# Altium integrated library TI Power Management Battery Management.IntLib: 949 symbols (part 22 of 62)
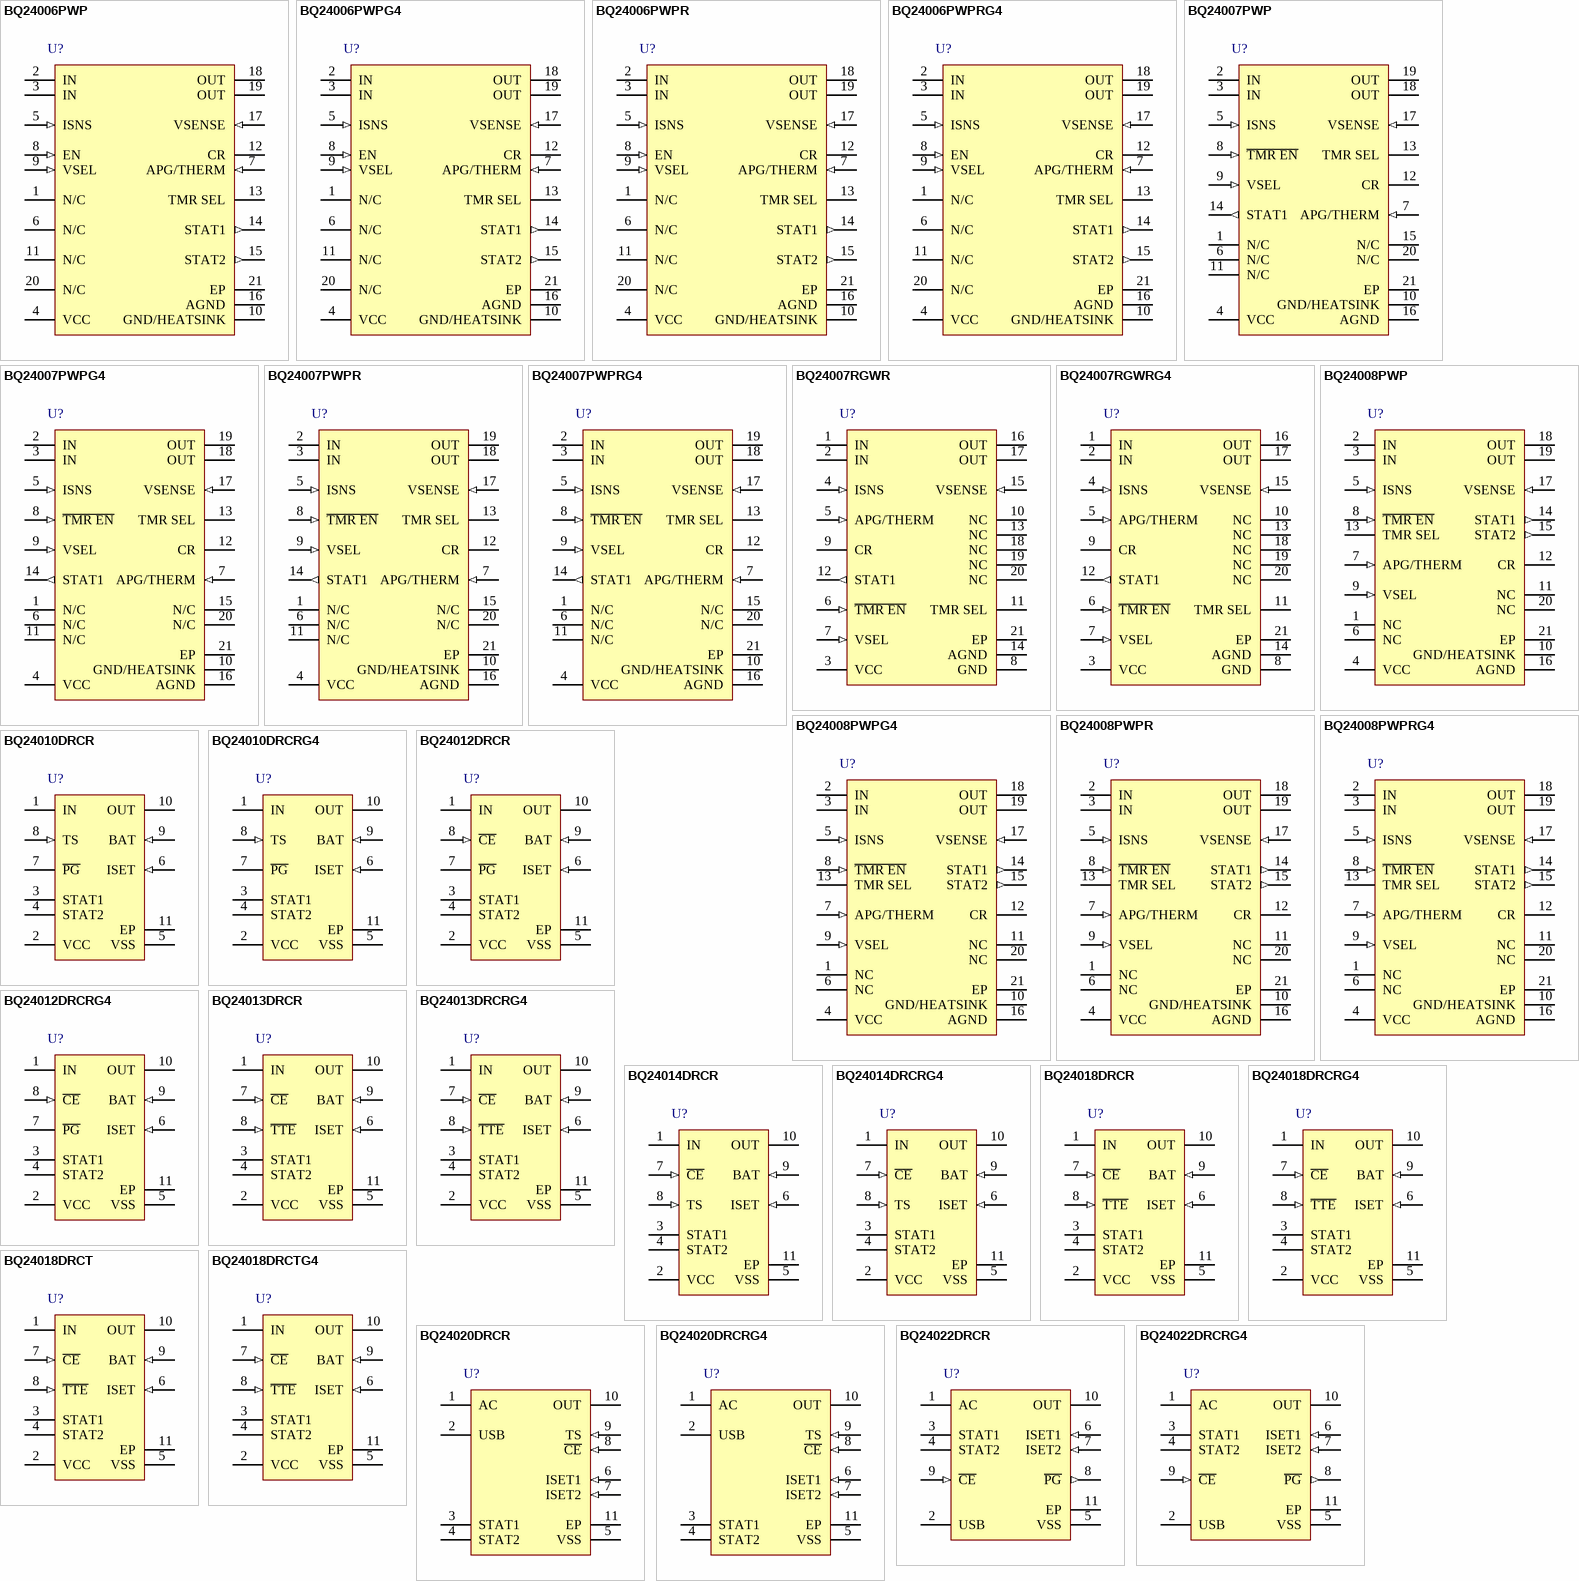
[diagram p55: symbols BQ24006PWP to BQ24022DRCRG4]

## BQ24018DRCRG4
designator U?
Single Chip Li-Ion Charge Management IC for Handheld Applications (bqTINY), 3 V, -40 to 125 degC, 10-pin SON (DRC), Green (RoHS & no Sb/Br); PartNumber: BQ24018DRCRG4; Manufacturer: Texas Instruments; Lead Acid: N; Li-Ion: Y; SubFamily: Battery Charge Management; Vin(Min)(V): 3; DatasheetVersion: SLUS530J; PackageVersion: revL, Sep-2011; PackageReference: DRC10-2400X1650TP; PackageDescription: 10-Pin Plastic Small Outline No-Lead, 3 x 3 x 1 mm Body, 0.5 mm Pitch, Exposed Pad; Supplier 1: Digi-Key; Supplier Part Number 1: BQ24018DRCRG4-ND; Supplier 2: Newark; Supplier Part Number 2: 52M8213; Supplier 3: Mouser; Supplier Part Number 3: 595-BQ24018DRCRG4; Eco-Plan: Green (RoHS & no Sb/Br); Li-Polymer: Y; NiCd: N; NiMH: N; Over Voltage Protection: N; Mounting Technology: Surface Mount; ComponentLink1Description: Datasheet; ComponentLink1URL: http://www.ti.com/general/docs/lit/getliterature.tsp?genericPartNumber=BQ24018&fileType=pdf
footprint DRC10-2400X1650TP (SON, 10-Leads, Body 3x3mm, Pitch 0.5mm, Thermal Pad 2.4x1.65mm, TI Recommended)
pins: 1 IN (power) "Charge input voltage. This input must be tied to the VCC pin.", 2 VCC (power) "VCC supply input", 3 STAT1 (oc) "Charge status output 1 (open collector)", 4 STAT2 (oc) "Charge status output 2 (open collector)", 5 VSS (power) "Ground input", 6 ISET (in) "Charge current set point", 7 ~{CE} (in) "Charge enable input (active low)", 8 ~{TTE} (in) "Timer and termination enable input (active low)", 9 BAT (in) "Battery voltage sense input", 10 OUT (power) "Charge current output", 11 EP (power) "There is an internal electrical connection between the exposed thermal pad and VSS pin of the device. The exposed thermal pad must be connected to the same potential as the Vss pin on the printed circuit board. Do not use (See Datasheet)"

## BQ24018DRCT
designator U?
Single Chip Li-Ion Charge Management IC for Handheld Applications (bqTINY), 3 V, -40 to 125 degC, 10-pin SON (DRC), Green (RoHS & no Sb/Br); PartNumber: BQ24018DRCT; Manufacturer: Texas Instruments; Lead Acid: N; Li-Ion: Y; SubFamily: Battery Charge Management; Vin(Min)(V): 3; DatasheetVersion: SLUS530J; PackageVersion: revL, Sep-2011; PackageReference: DRC10-2400X1650TP; PackageDescription: 10-Pin Plastic Small Outline No-Lead, 3 x 3 x 1 mm Body, 0.5 mm Pitch, Exposed Pad; Supplier 1: Digi-Key; Supplier Part Number 1: BQ24018DRCT-ND; Supplier 2: Farnell; Supplier Part Number 2: 1647892; Supplier 3: Newark; Supplier Part Number 3: 33P6574; Supplier 4: Newark; Supplier Part Number 4: 50M9889; Supplier 5: Mouser; Supplier Part Number 5: 595-BQ24018DRCT; Eco-Plan: Green (RoHS & no Sb/Br); Li-Polymer: Y; NiCd: N; NiMH: N; Over Voltage Protection: N; Mounting Technology: Surface Mount; ComponentLink1Description: Datasheet; ComponentLink1URL: http://www.ti.com/general/docs/lit/getliterature.tsp?genericPartNumber=BQ24018&fileType=pdf
footprint DRC10-2400X1650TP (SON, 10-Leads, Body 3x3mm, Pitch 0.5mm, Thermal Pad 2.4x1.65mm, TI Recommended)
pins: 1 IN (power) "Charge input voltage. This input must be tied to the VCC pin.", 2 VCC (power) "VCC supply input", 3 STAT1 (oc) "Charge status output 1 (open collector)", 4 STAT2 (oc) "Charge status output 2 (open collector)", 5 VSS (power) "Ground input", 6 ISET (in) "Charge current set point", 7 ~{CE} (in) "Charge enable input (active low)", 8 ~{TTE} (in) "Timer and termination enable input (active low)", 9 BAT (in) "Battery voltage sense input", 10 OUT (power) "Charge current output", 11 EP (power) "There is an internal electrical connection between the exposed thermal pad and VSS pin of the device. The exposed thermal pad must be connected to the same potential as the Vss pin on the printed circuit board. Do not use (See Datasheet)"

## BQ24018DRCTG4
designator U?
Single Chip Li-Ion Charge Management IC for Handheld Applications (bqTINY), 3 V, -40 to 125 degC, 10-pin SON (DRC), Green (RoHS & no Sb/Br); PartNumber: BQ24018DRCTG4; Manufacturer: Texas Instruments; Lead Acid: N; Li-Ion: Y; SubFamily: Battery Charge Management; Vin(Min)(V): 3; DatasheetVersion: SLUS530J; PackageVersion: revL, Sep-2011; PackageReference: DRC10-2400X1650TP; PackageDescription: 10-Pin Plastic Small Outline No-Lead, 3 x 3 x 1 mm Body, 0.5 mm Pitch, Exposed Pad; Supplier 1: Digi-Key; Supplier Part Number 1: BQ24018DRCTG4-ND; Supplier 2: Newark; Supplier Part Number 2: 52M8214; Supplier 3: Mouser; Supplier Part Number 3: 595-BQ24018DRCTG4; Eco-Plan: Green (RoHS & no Sb/Br); Li-Polymer: Y; NiCd: N; NiMH: N; Over Voltage Protection: N; Mounting Technology: Surface Mount; ComponentLink1Description: Datasheet; ComponentLink1URL: http://www.ti.com/general/docs/lit/getliterature.tsp?genericPartNumber=BQ24018&fileType=pdf
footprint DRC10-2400X1650TP (SON, 10-Leads, Body 3x3mm, Pitch 0.5mm, Thermal Pad 2.4x1.65mm, TI Recommended)
pins: 1 IN (power) "Charge input voltage. This input must be tied to the VCC pin.", 2 VCC (power) "VCC supply input", 3 STAT1 (oc) "Charge status output 1 (open collector)", 4 STAT2 (oc) "Charge status output 2 (open collector)", 5 VSS (power) "Ground input", 6 ISET (in) "Charge current set point", 7 ~{CE} (in) "Charge enable input (active low)", 8 ~{TTE} (in) "Timer and termination enable input (active low)", 9 BAT (in) "Battery voltage sense input", 10 OUT (power) "Charge current output", 11 EP (power) "There is an internal electrical connection between the exposed thermal pad and VSS pin of the device. The exposed thermal pad must be connected to the same potential as the Vss pin on the printed circuit board. Do not use (See Datasheet)"

## BQ24020DRCR
designator U?
bqTINY-II Dual Input USB / AC Adpater 1-Cell Li-Ion Charger with Charge Enable & Temp Sense in QFN-10, 4.5 V, -40 to 125 degC, 10-pin SON (DRC), Green (RoHS & no Sb/Br); PartNumber: BQ24020DRCR; Manufacturer: Texas Instruments; Lead Acid: N; Li-Ion: Y; SubFamily: Battery Charge Management; Vin(Min)(V): 4.5; DatasheetVersion: SLUS549E; PackageVersion: revL, Sep-2011; PackageReference: DRC10-2400X1650TP; PackageDescription: 10-Pin Plastic Small Outline No-Lead, 3 x 3 x 1 mm Body, 0.5 mm Pitch, Exposed Pad; Supplier 1: Digi-Key; Supplier Part Number 1: 296-14072-2-ND; Supplier 2: Digi-Key; Supplier Part Number 2: 296-14072-1-ND; Supplier 3: Digi-Key; Supplier Part Number 3: 296-14072-6-ND; Supplier 4: Newark; Supplier Part Number 4: 20H2737; Supplier 5: Mouser; Supplier Part Number 5: 595-BQ24020DRCR; Eco-Plan: Green (RoHS & no Sb/Br); Li-Polymer: Y; NiCd: N; NiMH: N; Over Voltage Protection: N; Mounting Technology: Surface Mount; ComponentLink1Description: Datasheet; ComponentLink1URL: http://www.ti.com/general/docs/lit/getliterature.tsp?genericPartNumber=BQ24020&fileType=pdf
footprint DRC10-2400X1650TP (SON, 10-Leads, Body 3x3mm, Pitch 0.5mm, Thermal Pad 2.4x1.65mm, TI Recommended)
pins: 1 AC (power) "AC charge input voltage", 2 USB (power) "USB charge input voltage", 3 STAT1 (oc) "Charge status output 1 (open-drain)", 4 STAT2 (oc) "Charge status output 2 (open-drain)", 5 VSS (power) "Ground input", 6 ISET1 (in) "Charge current set point for AC input and precharge ande taper set point for both AC and USB", 7 ISET2 (in) "Charge current set point for USB port (high=500 mA, low=100 mA, hi-z = disable USB charge)", 8 ~{CE} (in) "Charge enable input (active low)", 9 TS (in) "Temperature sense input", 10 OUT (power) "Charge current output", 11 EP (power) "There is an internal electrical connection between the exposed thermal pad and VSS pin of the device. The exposed thermal pad must be connected to the same potential as the VSS pin on the printed circuit board. Do not use (See Datasheet)"

## BQ24020DRCRG4
designator U?
bqTINY-II Dual Input USB / AC Adpater 1-Cell Li-Ion Charger with Charge Enable & Temp Sense in QFN-10, 4.5 V, -40 to 125 degC, 10-pin SON (DRC), Green (RoHS & no Sb/Br); PartNumber: BQ24020DRCRG4; Manufacturer: Texas Instruments; Lead Acid: N; Li-Ion: Y; SubFamily: Battery Charge Management; Vin(Min)(V): 4.5; DatasheetVersion: SLUS549E; PackageVersion: revL, Sep-2011; PackageReference: DRC10-2400X1650TP; PackageDescription: 10-Pin Plastic Small Outline No-Lead, 3 x 3 x 1 mm Body, 0.5 mm Pitch, Exposed Pad; Supplier 1: Digi-Key; Supplier Part Number 1: BQ24020DRCRG4-ND; Supplier 2: Newark; Supplier Part Number 2: 24K4385; Supplier 3: Mouser; Supplier Part Number 3: 595-BQ24020DRCRG4; Eco-Plan: Green (RoHS & no Sb/Br); Li-Polymer: Y; NiCd: N; NiMH: N; Over Voltage Protection: N; Mounting Technology: Surface Mount; ComponentLink1Description: Datasheet; ComponentLink1URL: http://www.ti.com/general/docs/lit/getliterature.tsp?genericPartNumber=BQ24020&fileType=pdf
footprint DRC10-2400X1650TP (SON, 10-Leads, Body 3x3mm, Pitch 0.5mm, Thermal Pad 2.4x1.65mm, TI Recommended)
pins: 1 AC (power) "AC charge input voltage", 2 USB (power) "USB charge input voltage", 3 STAT1 (oc) "Charge status output 1 (open-drain)", 4 STAT2 (oc) "Charge status output 2 (open-drain)", 5 VSS (power) "Ground input", 6 ISET1 (in) "Charge current set point for AC input and precharge ande taper set point for both AC and USB", 7 ISET2 (in) "Charge current set point for USB port (high=500 mA, low=100 mA, hi-z = disable USB charge)", 8 ~{CE} (in) "Charge enable input (active low)", 9 TS (in) "Temperature sense input", 10 OUT (power) "Charge current output", 11 EP (power) "There is an internal electrical connection between the exposed thermal pad and VSS pin of the device. The exposed thermal pad must be connected to the same potential as the VSS pin on the printed circuit board. Do not use (See Datasheet)"

## BQ24022DRCR
designator U?
bqTINY-II Dual Input USB / AC Adpater 1-Cell Li-Ion Charger with Charge Enable & Power Good in QFN-10, 4.5 V, -40 to 125 degC, 10-pin SON (DRC), Green (RoHS & no Sb/Br); PartNumber: BQ24022DRCR; Manufacturer: Texas Instruments; Lead Acid: N; Li-Ion: Y; SubFamily: Battery Charge Management; Vin(Min)(V): 4.5; DatasheetVersion: SLUS549E; PackageVersion: revL, Sep-2011; PackageReference: DRC10-2400X1650TP; PackageDescription: 10-Pin Plastic Small Outline No-Lead, 3 x 3 x 1 mm Body, 0.5 mm Pitch, Exposed Pad; Supplier 1: Digi-Key; Supplier Part Number 1: 296-14397-2-ND; Supplier 2: Digi-Key; Supplier Part Number 2: 296-14397-1-ND; Supplier 3: Digi-Key; Supplier Part Number 3: 296-14397-6-ND; Supplier 4: Newark; Supplier Part Number 4: 32H5414; Supplier 5: Mouser; Supplier Part Number 5: 595-BQ24022DRCR; Eco-Plan: Green (RoHS & no Sb/Br); Li-Polymer: Y; NiCd: N; NiMH: N; Over Voltage Protection: N; Mounting Technology: Surface Mount; ComponentLink1Description: Datasheet; ComponentLink1URL: http://www.ti.com/general/docs/lit/getliterature.tsp?genericPartNumber=BQ24022&fileType=pdf
footprint DRC10-2400X1650TP (SON, 10-Leads, Body 3x3mm, Pitch 0.5mm, Thermal Pad 2.4x1.65mm, TI Recommended)
pins: 1 AC (power) "AC charge input voltage", 2 USB (power) "USB charge input voltage", 3 STAT1 (oc) "Charge status output 1 (open-drain)", 4 STAT2 (oc) "Charge status output 2 (open-drain)", 5 VSS (power) "Ground input", 6 ISET1 (in) "Charge current set point for AC input and precharge ande taper set point for both AC and USB", 7 ISET2 (in) "Charge current set point for USB port (high=500 mA, low=100 mA, hi-z = disable USB charge)", 8 ~{PG} (out) "powergood status output (active low)", 9 ~{CE} (in) "Charge enable input (active low)", 10 OUT (power) "Charge current output", 11 EP (power) "There is an internal electrical connection between the exposed thermal pad and VSS pin of the device. The exposed thermal pad must be connected to the same potential as the VSS pin on the printed circuit board. Do not use (See Datasheet)"

## BQ24022DRCRG4
designator U?
bqTINY-II Dual Input USB / AC Adpater 1-Cell Li-Ion Charger with Charge Enable & Power Good in QFN-10, 4.5 V, -40 to 125 degC, 10-pin SON (DRC), Green (RoHS & no Sb/Br); PartNumber: BQ24022DRCRG4; Manufacturer: Texas Instruments; Lead Acid: N; Li-Ion: Y; SubFamily: Battery Charge Management; Vin(Min)(V): 4.5; DatasheetVersion: SLUS549E; PackageVersion: revL, Sep-2011; PackageReference: DRC10-2400X1650TP; PackageDescription: 10-Pin Plastic Small Outline No-Lead, 3 x 3 x 1 mm Body, 0.5 mm Pitch, Exposed Pad; Supplier 1: Digi-Key; Supplier Part Number 1: BQ24022DRCRG4-ND; Supplier 2: Newark; Supplier Part Number 2: 03K8981; Supplier 3: Mouser; Supplier Part Number 3: 595-BQ24022DRCRG4; Eco-Plan: Green (RoHS & no Sb/Br); Li-Polymer: Y; NiCd: N; NiMH: N; Over Voltage Protection: N; Mounting Technology: Surface Mount; ComponentLink1Description: Datasheet; ComponentLink1URL: http://www.ti.com/general/docs/lit/getliterature.tsp?genericPartNumber=BQ24022&fileType=pdf
footprint DRC10-2400X1650TP (SON, 10-Leads, Body 3x3mm, Pitch 0.5mm, Thermal Pad 2.4x1.65mm, TI Recommended)
pins: 1 AC (power) "AC charge input voltage", 2 USB (power) "USB charge input voltage", 3 STAT1 (oc) "Charge status output 1 (open-drain)", 4 STAT2 (oc) "Charge status output 2 (open-drain)", 5 VSS (power) "Ground input", 6 ISET1 (in) "Charge current set point for AC input and precharge ande taper set point for both AC and USB", 7 ISET2 (in) "Charge current set point for USB port (high=500 mA, low=100 mA, hi-z = disable USB charge)", 8 ~{PG} (out) "powergood status output (active low)", 9 ~{CE} (in) "Charge enable input (active low)", 10 OUT (power) "Charge current output", 11 EP (power) "There is an internal electrical connection between the exposed thermal pad and VSS pin of the device. The exposed thermal pad must be connected to the same potential as the VSS pin on the printed circuit board. Do not use (See Datasheet)"

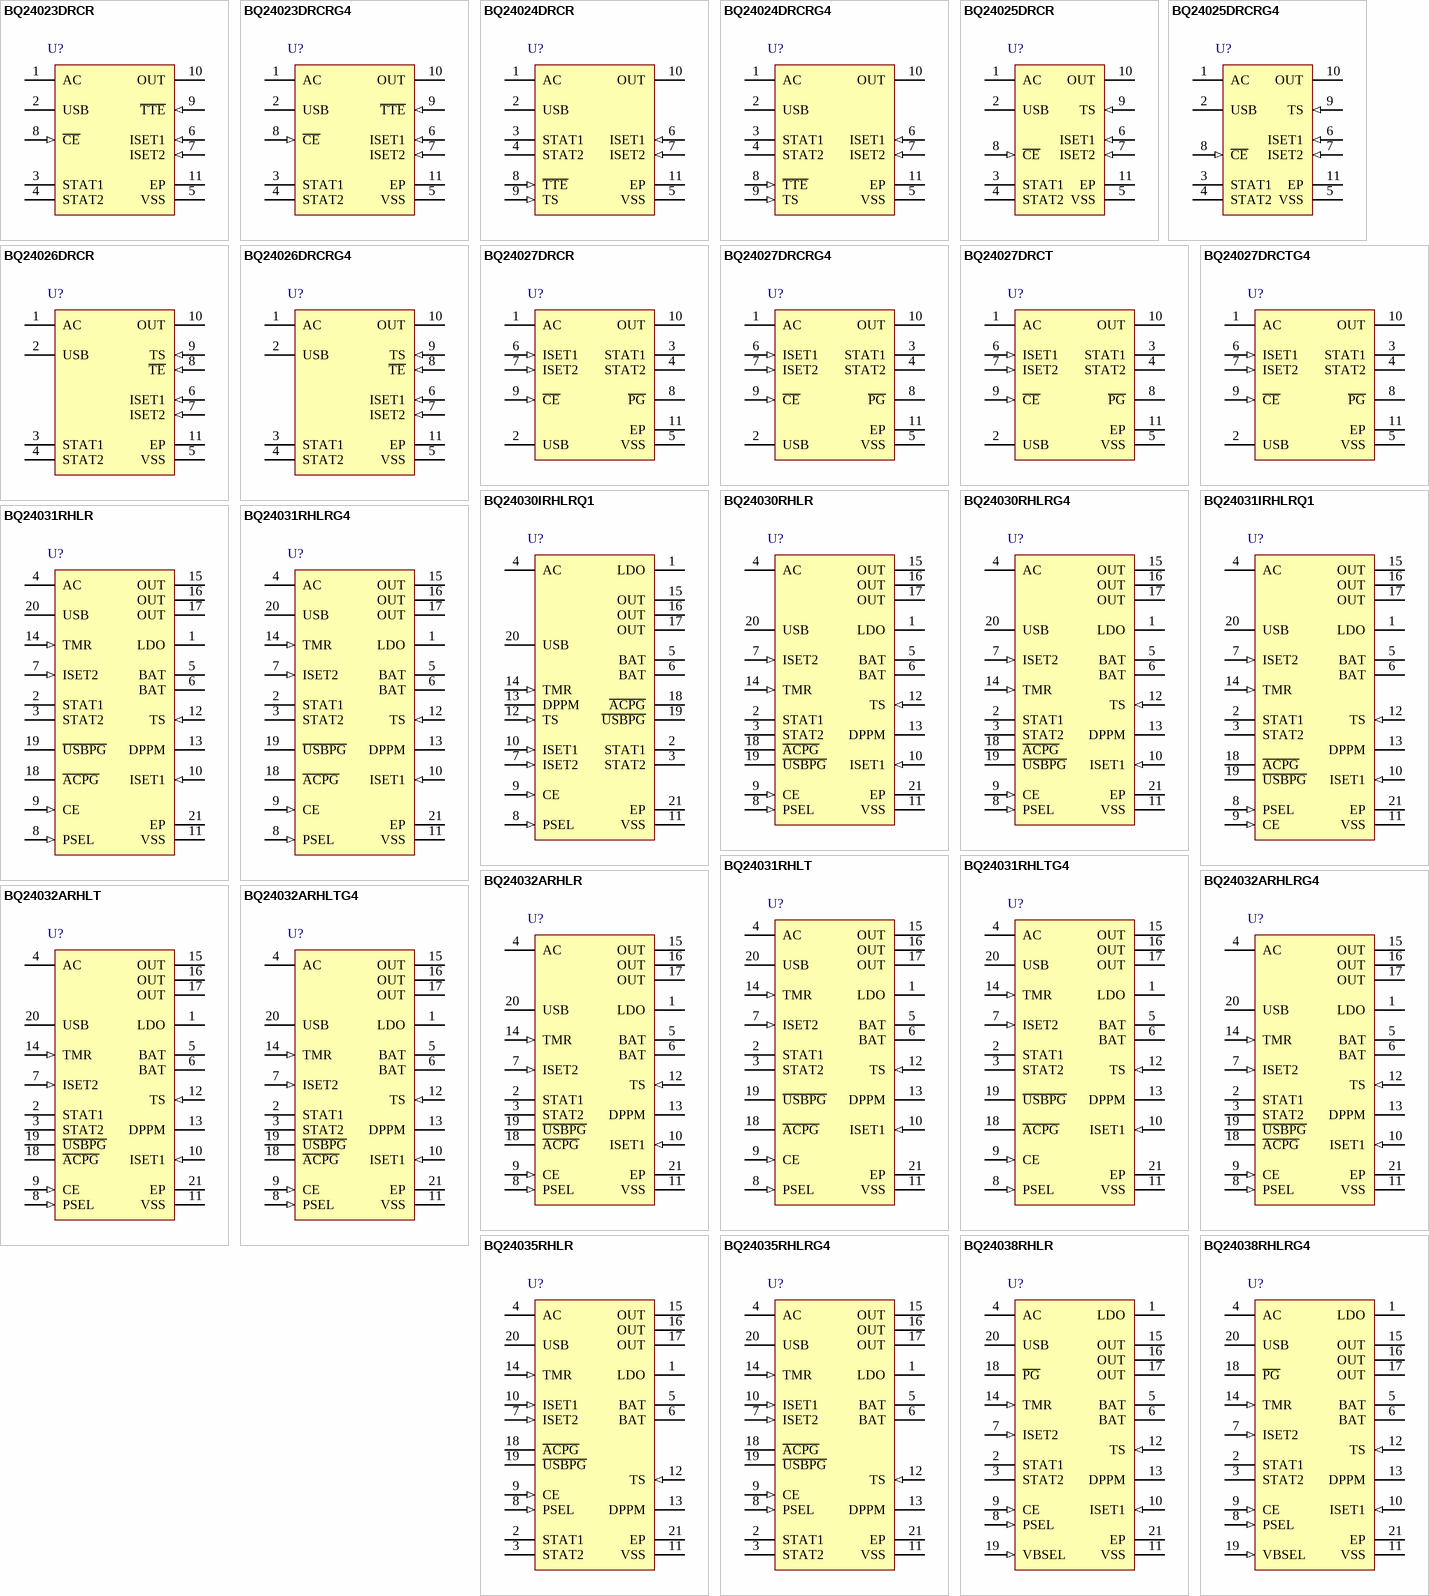
[diagram p13: symbols BQ24023DRCR to BQ24038RHLRG4]

## BQ24023DRCR
designator U?
bqTINY-II Dual Input USB / AC Adpater 1-Cell Li-Ion Charger with Charge Enable, Term Enable in QFN-10, 4.5 V, -40 to 85 degC, 10-pin SON (DRC), Green (RoHS & no Sb/Br); PartNumber: BQ24023DRCR; Manufacturer: Texas Instruments; Lead Acid: N; Li-Ion: Y; SubFamily: Battery Charge Management; Vin(Min)(V): 4.5; DatasheetVersion: SLUS549E; PackageVersion: revL, Sep-2011; PackageReference: DRC10-2400X1650TP; PackageDescription: 10-Pin Plastic Small Outline No-Lead, 3 x 3 x 1 mm Body, 0.5 mm Pitch, Exposed Pad; Supplier 1: Digi-Key; Supplier Part Number 1: 296-15182-2-ND; Supplier 2: Digi-Key; Supplier Part Number 2: 296-15182-1-ND; Supplier 3: Digi-Key; Supplier Part Number 3: 296-15182-6-ND; Supplier 4: Newark; Supplier Part Number 4: 66H9531; Supplier 5: Mouser; Supplier Part Number 5: 595-BQ24023DRCR; Eco-Plan: Green (RoHS & no Sb/Br); Li-Polymer: Y; NiCd: N; NiMH: N; Over Voltage Protection: N; Mounting Technology: Surface Mount; ComponentLink1Description: Datasheet; ComponentLink1URL: http://www.ti.com/general/docs/lit/getliterature.tsp?genericPartNumber=BQ24023&fileType=pdf
footprint DRC10-2400X1650TP (SON, 10-Leads, Body 3x3mm, Pitch 0.5mm, Thermal Pad 2.4x1.65mm, TI Recommended)
pins: 1 AC (power) "AC charge input voltage", 2 USB (power) "USB charge input voltage", 3 STAT1 (oc) "Charge status output 1 (open-drain)", 4 STAT2 (oc) "Charge status output 2 (open-drain)", 5 VSS (power) "Ground input", 6 ISET1 (in) "Charge current set point for AC input and precharge ande taper set point for both AC and USB", 7 ISET2 (in) "Charge current set point for USB port (high=500 mA, low=100 mA, hi-z = disable USB charge)", 8 ~{CE} (in) "Charge enable input (active low)", 9 ~{TTE} (in) "Timer and termination enable input (active low)", 10 OUT (power) "Charge current output", 11 EP (power) "There is an internal electrical connection between the exposed thermal pad and VSS pin of the device. The exposed thermal pad must be connected to the same potential as the VSS pin on the printed circuit board. Do not use (See Datasheet)"

## BQ24023DRCRG4
designator U?
bqTINY-II Dual Input USB / AC Adpater 1-Cell Li-Ion Charger with Charge Enable, Term Enable in QFN-10, 4.5 V, -40 to 85 degC, 10-pin SON (DRC), Green (RoHS & no Sb/Br); PartNumber: BQ24023DRCRG4; Manufacturer: Texas Instruments; Lead Acid: N; Li-Ion: Y; SubFamily: Battery Charge Management; Vin(Min)(V): 4.5; DatasheetVersion: SLUS549E; PackageVersion: revL, Sep-2011; PackageReference: DRC10-2400X1650TP; PackageDescription: 10-Pin Plastic Small Outline No-Lead, 3 x 3 x 1 mm Body, 0.5 mm Pitch, Exposed Pad; Supplier 1: Digi-Key; Supplier Part Number 1: BQ24023DRCRG4-ND; Supplier 2: Newark; Supplier Part Number 2: 28K2823; Supplier 3: Mouser; Supplier Part Number 3: 595-BQ24023DRCRG4; Eco-Plan: Green (RoHS & no Sb/Br); Li-Polymer: Y; NiCd: N; NiMH: N; Over Voltage Protection: N; Mounting Technology: Surface Mount; ComponentLink1Description: Datasheet; ComponentLink1URL: http://www.ti.com/general/docs/lit/getliterature.tsp?genericPartNumber=BQ24023&fileType=pdf
footprint DRC10-2400X1650TP (SON, 10-Leads, Body 3x3mm, Pitch 0.5mm, Thermal Pad 2.4x1.65mm, TI Recommended)
pins: 1 AC (power) "AC charge input voltage", 2 USB (power) "USB charge input voltage", 3 STAT1 (oc) "Charge status output 1 (open-drain)", 4 STAT2 (oc) "Charge status output 2 (open-drain)", 5 VSS (power) "Ground input", 6 ISET1 (in) "Charge current set point for AC input and precharge ande taper set point for both AC and USB", 7 ISET2 (in) "Charge current set point for USB port (high=500 mA, low=100 mA, hi-z = disable USB charge)", 8 ~{CE} (in) "Charge enable input (active low)", 9 ~{TTE} (in) "Timer and termination enable input (active low)", 10 OUT (power) "Charge current output", 11 EP (power) "There is an internal electrical connection between the exposed thermal pad and VSS pin of the device. The exposed thermal pad must be connected to the same potential as the VSS pin on the printed circuit board. Do not use (See Datasheet)"

## BQ24024DRCR
designator U?
bqTINY-II Dual Input USB / AC Adpater 1-Cell Li-Ion Charger with Term Enable & Temp Sense in QFN-10, 4.5 V, -40 to 125 degC, 10-pin SON (DRC), Green (RoHS & no Sb/Br); PartNumber: BQ24024DRCR; Manufacturer: Texas Instruments; Lead Acid: N; Li-Ion: Y; SubFamily: Battery Charge Management; Vin(Min)(V): 4.5; DatasheetVersion: SLUS549E; PackageVersion: revL, Sep-2011; PackageReference: DRC10-2400X1650TP; PackageDescription: 10-Pin Plastic Small Outline No-Lead, 3 x 3 x 1 mm Body, 0.5 mm Pitch, Exposed Pad; Supplier 1: Digi-Key; Supplier Part Number 1: 296-17054-2-ND; Supplier 2: Digi-Key; Supplier Part Number 2: 296-17054-1-ND; Supplier 3: Digi-Key; Supplier Part Number 3: 296-17054-6-ND; Supplier 4: Farnell; Supplier Part Number 4: 1754751; Supplier 5: Newark; Supplier Part Number 5: 93R5085; Supplier 6: Newark; Supplier Part Number 6: 10J9018; Supplier 7: Mouser; Supplier Part Number 7: 595-BQ24024DRCR; Eco-Plan: Green (RoHS & no Sb/Br); Li-Polymer: Y; NiCd: N; NiMH: N; Over Voltage Protection: N; Mounting Technology: Surface Mount; ComponentLink1Description: Datasheet; ComponentLink1URL: http://www.ti.com/general/docs/lit/getliterature.tsp?genericPartNumber=BQ24024&fileType=pdf
footprint DRC10-2400X1650TP (SON, 10-Leads, Body 3x3mm, Pitch 0.5mm, Thermal Pad 2.4x1.65mm, TI Recommended)
pins: 1 AC (power) "AC charge input voltage", 2 USB (power) "USB charge input voltage", 3 STAT1 (oc) "Charge status output 1 (open-drain)", 4 STAT2 (oc) "Charge status output 2 (open-drain)", 5 VSS (power) "Ground input", 6 ISET1 (in) "Charge current set point for AC input and precharge ande taper set point for both AC and USB", 7 ISET2 (in) "Charge current set point for USB port (high=500 mA, low=100 mA, hi-z = disable USB charge)", 8 ~{TTE} (in) "Timer and termination enable input (active low)", 9 TS (in) "Temperature sense input", 10 OUT (power) "Charge current output", 11 EP (power) "There is an internal electrical connection between the exposed thermal pad and VSS pin of the device. The exposed thermal pad must be connected to the same potential as the VSS pin on the printed circuit board. Do not use (See Datasheet)"

## BQ24024DRCRG4
designator U?
bqTINY-II Dual Input USB / AC Adpater 1-Cell Li-Ion Charger with Term Enable & Temp Sense in QFN-10, 4.5 V, -40 to 125 degC, 10-pin SON (DRC), Green (RoHS & no Sb/Br); PartNumber: BQ24024DRCRG4; Manufacturer: Texas Instruments; Lead Acid: N; Li-Ion: Y; SubFamily: Battery Charge Management; Vin(Min)(V): 4.5; DatasheetVersion: SLUS549E; PackageVersion: revL, Sep-2011; PackageReference: DRC10-2400X1650TP; PackageDescription: 10-Pin Plastic Small Outline No-Lead, 3 x 3 x 1 mm Body, 0.5 mm Pitch, Exposed Pad; Supplier 1: Digi-Key; Supplier Part Number 1: BQ24024DRCRG4-ND; Supplier 2: Newark; Supplier Part Number 2: 58K5580; Supplier 3: Mouser; Supplier Part Number 3: 595-BQ24024DRCRG4; Eco-Plan: Green (RoHS & no Sb/Br); Li-Polymer: Y; NiCd: N; NiMH: N; Over Voltage Protection: N; Mounting Technology: Surface Mount; ComponentLink1Description: Datasheet; ComponentLink1URL: http://www.ti.com/general/docs/lit/getliterature.tsp?genericPartNumber=BQ24024&fileType=pdf
footprint DRC10-2400X1650TP (SON, 10-Leads, Body 3x3mm, Pitch 0.5mm, Thermal Pad 2.4x1.65mm, TI Recommended)
pins: 1 AC (power) "AC charge input voltage", 2 USB (power) "USB charge input voltage", 3 STAT1 (oc) "Charge status output 1 (open-drain)", 4 STAT2 (oc) "Charge status output 2 (open-drain)", 5 VSS (power) "Ground input", 6 ISET1 (in) "Charge current set point for AC input and precharge ande taper set point for both AC and USB", 7 ISET2 (in) "Charge current set point for USB port (high=500 mA, low=100 mA, hi-z = disable USB charge)", 8 ~{TTE} (in) "Timer and termination enable input (active low)", 9 TS (in) "Temperature sense input", 10 OUT (power) "Charge current output", 11 EP (power) "There is an internal electrical connection between the exposed thermal pad and VSS pin of the device. The exposed thermal pad must be connected to the same potential as the VSS pin on the printed circuit board. Do not use (See Datasheet)"

## BQ24025DRCR
designator U?
bqTINY-II Dual Input USB / AC Adpater 1-Cell Li-Ion Charger with Charge Enable & Temp Sense, 7 hr Timer, 4.5 V, -40 to 85 degC, 10-pin SON (DRC), Green (RoHS & no Sb/Br); PartNumber: BQ24025DRCR; Manufacturer: Texas Instruments; Lead Acid: N; SubFamily: Battery Charge Management; Vin(Min)(V): 4.5; DatasheetVersion: SLUS549E; PackageVersion: revL, Sep-2011; PackageReference: DRC10-2400X1650TP; PackageDescription: 10-Pin Plastic Small Outline No-Lead, 3 x 3 x 1 mm Body, 0.5 mm Pitch, Exposed Pad; Supplier 1: Digi-Key; Supplier Part Number 1: 296-15760-2-ND; Supplier 2: Digi-Key; Supplier Part Number 2: 296-15760-1-ND; Supplier 3: Digi-Key; Supplier Part Number 3: 296-15760-6-ND; Supplier 4: Farnell; Supplier Part Number 4: 1647893; Supplier 5: Farnell; Supplier Part Number 5: 1647893RL; Supplier 6: Newark; Supplier Part Number 6: 33P6575; Supplier 7: Newark; Supplier Part Number 7: 86H9701; Supplier 8: Mouser; Supplier Part Number 8: 595-BQ24025DRCR; Eco-Plan: Green (RoHS & no Sb/Br); Li-Ion: N; Li-Polymer: N; NiCd: N; NiMH: N; Over Voltage Protection: N; Mounting Technology: Surface Mount; ComponentLink1Description: Datasheet; ComponentLink1URL: http://www.ti.com/general/docs/lit/getliterature.tsp?genericPartNumber=BQ24025&fileType=pdf
footprint DRC10-2400X1650TP (SON, 10-Leads, Body 3x3mm, Pitch 0.5mm, Thermal Pad 2.4x1.65mm, TI Recommended)
pins: 1 AC (power) "AC charge input voltage", 2 USB (power) "USB charge input voltage", 3 STAT1 (oc) "Charge status output 1 (open-drain)", 4 STAT2 (oc) "Charge status output 2 (open-drain)", 5 VSS (power) "Ground input", 6 ISET1 (in) "Charge current set point for AC input and precharge and taper set point for both AC and USB", 7 ISET2 (in) "Charge current set point for USB port (high=500 mA, low=100 mA, hi-z = disable USB charge)", 8 ~{CE} (in) "Charge enable input (active low)", 9 TS (in) "Temperature sense input", 10 OUT (power) "Charge current output", 11 EP (power) "There is an internal electrical connection between the exposed thermal pad and VSS pin of the device. The exposed thermal pad must be connected to the same potential as the VSS pin on the printed circuit board. Do not use (See Datasheet)"

## BQ24025DRCRG4
designator U?
bqTINY-II Dual Input USB / AC Adpater 1-Cell Li-Ion Charger with Charge Enable & Temp Sense, 7 hr Timer, 4.5 V, -40 to 85 degC, 10-pin SON (DRC), Green (RoHS & no Sb/Br); PartNumber: BQ24025DRCRG4; Manufacturer: Texas Instruments; Lead Acid: N; SubFamily: Battery Charge Management; Vin(Min)(V): 4.5; DatasheetVersion: SLUS549E; PackageVersion: revL, Sep-2011; PackageReference: DRC10-2400X1650TP; PackageDescription: 10-Pin Plastic Small Outline No-Lead, 3 x 3 x 1 mm Body, 0.5 mm Pitch, Exposed Pad; Supplier 1: Digi-Key; Supplier Part Number 1: BQ24025DRCRG4-ND; Supplier 2: Newark; Supplier Part Number 2: 53K9241; Supplier 3: Mouser; Supplier Part Number 3: 595-BQ24025DRCRG4; Eco-Plan: Green (RoHS & no Sb/Br); Li-Ion: N; Li-Polymer: N; NiCd: N; NiMH: N; Over Voltage Protection: N; Mounting Technology: Surface Mount; ComponentLink1Description: Datasheet; ComponentLink1URL: http://www.ti.com/general/docs/lit/getliterature.tsp?genericPartNumber=BQ24025&fileType=pdf
footprint DRC10-2400X1650TP (SON, 10-Leads, Body 3x3mm, Pitch 0.5mm, Thermal Pad 2.4x1.65mm, TI Recommended)
pins: 1 AC (power) "AC charge input voltage", 2 USB (power) "USB charge input voltage", 3 STAT1 (oc) "Charge status output 1 (open-drain)", 4 STAT2 (oc) "Charge status output 2 (open-drain)", 5 VSS (power) "Ground input", 6 ISET1 (in) "Charge current set point for AC input and precharge and taper set point for both AC and USB", 7 ISET2 (in) "Charge current set point for USB port (high=500 mA, low=100 mA, hi-z = disable USB charge)", 8 ~{CE} (in) "Charge enable input (active low)", 9 TS (in) "Temperature sense input", 10 OUT (power) "Charge current output", 11 EP (power) "There is an internal electrical connection between the exposed thermal pad and VSS pin of the device. The exposed thermal pad must be connected to the same potential as the VSS pin on the printed circuit board. Do not use (See Datasheet)"

## BQ24026DRCR
designator U?
bqTINY-II Dual Input USB / AC Adpater 1-Cell Li-Ion Charger with Timer Enable & Temp Sense, No Taper, 4.5 V, -40 to 85 degC, 10-pin SON (DRC), Green (RoHS & no Sb/Br); PartNumber: BQ24026DRCR; Manufacturer: Texas Instruments; Lead Acid: N; Li-Ion: Y; SubFamily: Battery Charge Management; Vin(Min)(V): 4.5; DatasheetVersion: SLUS549E; PackageVersion: revL, Sep-2011; PackageReference: DRC10-2400X1650TP; PackageDescription: 10-Pin Plastic Small Outline No-Lead, 3 x 3 x 1 mm Body, 0.5 mm Pitch, Exposed Pad; Supplier 1: Digi-Key; Supplier Part Number 1: 296-17305-2-ND; Supplier 2: Digi-Key; Supplier Part Number 2: 296-17305-1-ND; Supplier 3: Digi-Key; Supplier Part Number 3: 296-17305-6-ND; Supplier 4: Newark; Supplier Part Number 4: 43J2505; Supplier 5: Mouser; Supplier Part Number 5: 595-BQ24026DRCR; Eco-Plan: Green (RoHS & no Sb/Br); Li-Polymer: Y; NiCd: N; NiMH: N; Over Voltage Protection: N; Mounting Technology: Surface Mount; ComponentLink1Description: Datasheet; ComponentLink1URL: http://www.ti.com/general/docs/lit/getliterature.tsp?genericPartNumber=BQ24026&fileType=pdf
footprint DRC10-2400X1650TP (SON, 10-Leads, Body 3x3mm, Pitch 0.5mm, Thermal Pad 2.4x1.65mm, TI Recommended)
pins: 1 AC (power) "AC charge input voltage", 2 USB (power) "USB charge input voltage", 3 STAT1 (oc) "Charge status output 1 (open-drain)", 4 STAT2 (oc) "Charge status output 2 (open-drain)", 5 VSS (power) "Ground input", 6 ISET1 (in) "Charge current set point for AC input and precharge ande taper set point for both AC and USB", 7 ISET2 (in) "Charge current set point for USB port (high=500 mA, low=100 mA, hi-z = disable USB charge)", 8 ~{TE} (in) "Timer enable input (active low)", 9 TS (in) "Temperature sense input", 10 OUT (power) "Charge current output", 11 EP (power) "There is an internal electrical connection between the exposed thermal pad and VSS pin of the device. The exposed thermal pad must be connected to the same potential as the VSS pin on the printed circuit board. Do not use (See Datasheet)"

## BQ24026DRCRG4
designator U?
bqTINY-II Dual Input USB / AC Adpater 1-Cell Li-Ion Charger with Timer Enable & Temp Sense, No Taper, 4.5 V, -40 to 85 degC, 10-pin SON (DRC), Green (RoHS & no Sb/Br); PartNumber: BQ24026DRCRG4; Manufacturer: Texas Instruments; Lead Acid: N; Li-Ion: Y; SubFamily: Battery Charge Management; Vin(Min)(V): 4.5; DatasheetVersion: SLUS549E; PackageVersion: revL, Sep-2011; PackageReference: DRC10-2400X1650TP; PackageDescription: 10-Pin Plastic Small Outline No-Lead, 3 x 3 x 1 mm Body, 0.5 mm Pitch, Exposed Pad; Supplier 1: Digi-Key; Supplier Part Number 1: BQ24026DRCRG4-ND; Supplier 2: Newark; Supplier Part Number 2: 24K4386; Supplier 3: Mouser; Supplier Part Number 3: 595-BQ24026DRCRG4; Eco-Plan: Green (RoHS & no Sb/Br); Li-Polymer: Y; NiCd: N; NiMH: N; Over Voltage Protection: N; Mounting Technology: Surface Mount; ComponentLink1Description: Datasheet; ComponentLink1URL: http://www.ti.com/general/docs/lit/getliterature.tsp?genericPartNumber=BQ24026&fileType=pdf
footprint DRC10-2400X1650TP (SON, 10-Leads, Body 3x3mm, Pitch 0.5mm, Thermal Pad 2.4x1.65mm, TI Recommended)
pins: 1 AC (power) "AC charge input voltage", 2 USB (power) "USB charge input voltage", 3 STAT1 (oc) "Charge status output 1 (open-drain)", 4 STAT2 (oc) "Charge status output 2 (open-drain)", 5 VSS (power) "Ground input", 6 ISET1 (in) "Charge current set point for AC input and precharge ande taper set point for both AC and USB", 7 ISET2 (in) "Charge current set point for USB port (high=500 mA, low=100 mA, hi-z = disable USB charge)", 8 ~{TE} (in) "Timer enable input (active low)", 9 TS (in) "Temperature sense input", 10 OUT (power) "Charge current output", 11 EP (power) "There is an internal electrical connection between the exposed thermal pad and VSS pin of the device. The exposed thermal pad must be connected to the same potential as the VSS pin on the printed circuit board. Do not use (See Datasheet)"

## BQ24027DRCR
designator U?
bqTINY-II Dual Input USB / AC Adpater 1-Cell Li-Ion Charger with Charge Enable & AC Present, No Taper, 4.5 V, -40 to 85 degC, 10-pin SON (DRC), Green (RoHS & no Sb/Br); PartNumber: BQ24027DRCR; Manufacturer: Texas Instruments; Lead Acid: N; Li-Ion: Y; SubFamily: Battery Charge Management; Vin(Min)(V): 4.5; DatasheetVersion: SLUS549E; PackageVersion: revL, Sep-2011; PackageReference: DRC10-2400X1650TP; PackageDescription: 10-Pin Plastic Small Outline No-Lead, 3 x 3 x 1 mm Body, 0.5 mm Pitch, Exposed Pad; Supplier 1: Digi-Key; Supplier Part Number 1: 296-19866-2-ND; Supplier 2: Digi-Key; Supplier Part Number 2: 296-19866-1-ND; Supplier 3: Digi-Key; Supplier Part Number 3: 296-19866-6-ND; Supplier 4: Newark; Supplier Part Number 4: 02M2405; Supplier 5: Mouser; Supplier Part Number 5: 595-BQ24027DRCR; Eco-Plan: Green (RoHS & no Sb/Br); Li-Polymer: Y; NiCd: N; NiMH: N; Over Voltage Protection: N; Mounting Technology: Surface Mount; ComponentLink1Description: Datasheet; ComponentLink1URL: http://www.ti.com/general/docs/lit/getliterature.tsp?genericPartNumber=BQ24027&fileType=pdf
footprint DRC10-2400X1650TP (SON, 10-Leads, Body 3x3mm, Pitch 0.5mm, Thermal Pad 2.4x1.65mm, TI Recommended)
pins: 1 AC (power) "AC charge input voltage", 2 USB (power) "USB charge input voltage", 3 STAT1 (oc) "Charge status output 1 (open-drain)", 4 STAT2 (oc) "Charge status output 2 (open-drain)", 5 VSS (power) "Ground input", 6 ISET1 (in) "Charge current set point for AC input and precharge and taper set point for both AC and USB", 7 ISET2 (in) "Charge current set point for USB port (high=500 mA, low=100 mA, hi-z = disable USB charge)", 8 ~{PG} (oc) "powergood status output (active low)", 9 ~{CE} (in) "Charge enable input (active low)", 10 OUT (power) "Charge current output", 11 EP (power) "There is an internal electrical connection between the exposed thermal pad and VSS pin of the device. The exposed thermal pad must be connected to the same potential as the VSS pin on the printed circuit board. Do not use (See Datasheet)"

## BQ24027DRCRG4
designator U?
bqTINY-II Dual Input USB / AC Adpater 1-Cell Li-Ion Charger with Charge Enable & AC Present, No Taper, 4.5 V, -40 to 85 degC, 10-pin SON (DRC), Green (RoHS & no Sb/Br); PartNumber: BQ24027DRCRG4; Manufacturer: Texas Instruments; Lead Acid: N; Li-Ion: Y; SubFamily: Battery Charge Management; Vin(Min)(V): 4.5; DatasheetVersion: SLUS549E; PackageVersion: revL, Sep-2011; PackageReference: DRC10-2400X1650TP; PackageDescription: 10-Pin Plastic Small Outline No-Lead, 3 x 3 x 1 mm Body, 0.5 mm Pitch, Exposed Pad; Supplier 1: Digi-Key; Supplier Part Number 1: BQ24027DRCRG4-ND; Supplier 2: Newark; Supplier Part Number 2: 03M6536; Supplier 3: Mouser; Supplier Part Number 3: 595-BQ24027DRCRG4; Eco-Plan: Green (RoHS & no Sb/Br); Li-Polymer: Y; NiCd: N; NiMH: N; Over Voltage Protection: N; Mounting Technology: Surface Mount; ComponentLink1Description: Datasheet; ComponentLink1URL: http://www.ti.com/general/docs/lit/getliterature.tsp?genericPartNumber=BQ24027&fileType=pdf
footprint DRC10-2400X1650TP (SON, 10-Leads, Body 3x3mm, Pitch 0.5mm, Thermal Pad 2.4x1.65mm, TI Recommended)
pins: 1 AC (power) "AC charge input voltage", 2 USB (power) "USB charge input voltage", 3 STAT1 (oc) "Charge status output 1 (open-drain)", 4 STAT2 (oc) "Charge status output 2 (open-drain)", 5 VSS (power) "Ground input", 6 ISET1 (in) "Charge current set point for AC input and precharge and taper set point for both AC and USB", 7 ISET2 (in) "Charge current set point for USB port (high=500 mA, low=100 mA, hi-z = disable USB charge)", 8 ~{PG} (oc) "powergood status output (active low)", 9 ~{CE} (in) "Charge enable input (active low)", 10 OUT (power) "Charge current output", 11 EP (power) "There is an internal electrical connection between the exposed thermal pad and VSS pin of the device. The exposed thermal pad must be connected to the same potential as the VSS pin on the printed circuit board. Do not use (See Datasheet)"

## BQ24027DRCT
designator U?
bqTINY-II Dual Input USB / AC Adpater 1-Cell Li-Ion Charger with Charge Enable & AC Present, No Taper, 4.5 V, -40 to 85 degC, 10-pin SON (DRC), Green (RoHS & no Sb/Br); PartNumber: BQ24027DRCT; Manufacturer: Texas Instruments; Lead Acid: N; Li-Ion: Y; SubFamily: Battery Charge Management; Vin(Min)(V): 4.5; DatasheetVersion: SLUS549E; PackageVersion: revL, Sep-2011; PackageReference: DRC10-2400X1650TP; PackageDescription: 10-Pin Plastic Small Outline No-Lead, 3 x 3 x 1 mm Body, 0.5 mm Pitch, Exposed Pad; Supplier 1: Digi-Key; Supplier Part Number 1: BQ24027DRCT-ND; Supplier 2: Newark; Supplier Part Number 2: 02M2406; Supplier 3: Mouser; Supplier Part Number 3: 595-BQ24027DRCT; Eco-Plan: Green (RoHS & no Sb/Br); Li-Polymer: Y; NiCd: N; NiMH: N; Over Voltage Protection: N; Mounting Technology: Surface Mount; ComponentLink1Description: Datasheet; ComponentLink1URL: http://www.ti.com/general/docs/lit/getliterature.tsp?genericPartNumber=BQ24027&fileType=pdf
footprint DRC10-2400X1650TP (SON, 10-Leads, Body 3x3mm, Pitch 0.5mm, Thermal Pad 2.4x1.65mm, TI Recommended)
pins: 1 AC (power) "AC charge input voltage", 2 USB (power) "USB charge input voltage", 3 STAT1 (oc) "Charge status output 1 (open-drain)", 4 STAT2 (oc) "Charge status output 2 (open-drain)", 5 VSS (power) "Ground input", 6 ISET1 (in) "Charge current set point for AC input and precharge and taper set point for both AC and USB", 7 ISET2 (in) "Charge current set point for USB port (high=500 mA, low=100 mA, hi-z = disable USB charge)", 8 ~{PG} (oc) "powergood status output (active low)", 9 ~{CE} (in) "Charge enable input (active low)", 10 OUT (power) "Charge current output", 11 EP (power) "There is an internal electrical connection between the exposed thermal pad and VSS pin of the device. The exposed thermal pad must be connected to the same potential as the VSS pin on the printed circuit board. Do not use (See Datasheet)"

## BQ24027DRCTG4
designator U?
bqTINY-II Dual Input USB / AC Adpater 1-Cell Li-Ion Charger with Charge Enable & AC Present, No Taper, 4.5 V, -40 to 85 degC, 10-pin SON (DRC), Green (RoHS & no Sb/Br); PartNumber: BQ24027DRCTG4; Manufacturer: Texas Instruments; Lead Acid: N; Li-Ion: Y; SubFamily: Battery Charge Management; Vin(Min)(V): 4.5; DatasheetVersion: SLUS549E; PackageVersion: revL, Sep-2011; PackageReference: DRC10-2400X1650TP; PackageDescription: 10-Pin Plastic Small Outline No-Lead, 3 x 3 x 1 mm Body, 0.5 mm Pitch, Exposed Pad; Supplier 1: Digi-Key; Supplier Part Number 1: BQ24027DRCTG4-ND; Supplier 2: Newark; Supplier Part Number 2: 03M6537; Supplier 3: Mouser; Supplier Part Number 3: 595-BQ24027DRCTG4; Eco-Plan: Green (RoHS & no Sb/Br); Li-Polymer: Y; NiCd: N; NiMH: N; Over Voltage Protection: N; Mounting Technology: Surface Mount; ComponentLink1Description: Datasheet; ComponentLink1URL: http://www.ti.com/general/docs/lit/getliterature.tsp?genericPartNumber=BQ24027&fileType=pdf
footprint DRC10-2400X1650TP (SON, 10-Leads, Body 3x3mm, Pitch 0.5mm, Thermal Pad 2.4x1.65mm, TI Recommended)
pins: 1 AC (power) "AC charge input voltage", 2 USB (power) "USB charge input voltage", 3 STAT1 (oc) "Charge status output 1 (open-drain)", 4 STAT2 (oc) "Charge status output 2 (open-drain)", 5 VSS (power) "Ground input", 6 ISET1 (in) "Charge current set point for AC input and precharge and taper set point for both AC and USB", 7 ISET2 (in) "Charge current set point for USB port (high=500 mA, low=100 mA, hi-z = disable USB charge)", 8 ~{PG} (oc) "powergood status output (active low)", 9 ~{CE} (in) "Charge enable input (active low)", 10 OUT (power) "Charge current output", 11 EP (power) "There is an internal electrical connection between the exposed thermal pad and VSS pin of the device. The exposed thermal pad must be connected to the same potential as the VSS pin on the printed circuit board. Do not use (See Datasheet)"

## BQ24030IRHLRQ1
designator U?
Automotive Catalog Single-Chip Charge and System Power-Path Management IC (bqTINY), 4.3 V, -40 to 85 degC, 20-pin QFN (RHL), Green (RoHS & no Sb/Br); PartNumber: BQ24030IRHLRQ1; Manufacturer: Texas Instruments; Lead Acid: N; Li-Ion: Y; SubFamily: Battery Charge Management; Vin(Min)(V): 4.3; DatasheetVersion: SLUS793B; PackageVersion: revJ, Dec-2011; PackageReference: RHL20-3050X2050TP; PackageDescription: 20-Leads Plastic Quad Flatpack No-Lead, 4.5 x 3.5 x 0.9 mm Body, 0.5 mm Pitch, Exposed Pad; Supplier 1: Digi-Key; Supplier Part Number 1: BQ24030IRHLRQ1-ND; Supplier 2: Newark; Supplier Part Number 2: 03P4018; Supplier 3: Mouser; Supplier Part Number 3: 595-BQ24030IRHLRQ1; Eco-Plan: Green (RoHS & no Sb/Br); Li-Polymer: Y; NiCd: N; NiMH: N; Over Voltage Protection: N; Mounting Technology: Surface Mount; ComponentLink1Description: Datasheet; ComponentLink1URL: http://www.ti.com/general/docs/lit/getliterature.tsp?genericPartNumber=BQ24030-Q1&fileType=pdf
footprint RHL20-3050X2050TP (QFN, 20-Leads, Body 4.5x3.5mm, Pitch 0.5mm, Thermal Pad 3.05x2.05mm, TI Recommended)
pins: 1 LDO (power) "3.3-V LDO regulator", 2 STAT1 (oc) "Charge status output 1 (open drain)", 3 STAT2 (oc) "Charge status output 2 (open drain)", 4 AC (power) "Charge input voltage from AC adapter", 5 BAT (power) "Battery input and output", 6 BAT (power) "Battery input and output", 7 ISET2 (in) "Charge current set point for USB port (high = 500 mA, low = 100 mA)", 8 PSEL (in) "Power source selection input (low for USB, high for AC)", 9 CE (in) "Chip enable input (active high)", 10 ISET1 (in) "Charge current set point for AC input and precharge and termination set point for both AC and USB", 11 VSS (power) "Ground input (the thermal pad on the underside of the package) There is an internal electrical connection between the exposed thermal pad and VSS pin of the device. The exposed thermal pad must be connected to the same (See Datasheet)", 12 TS (in) "Temperature sense input", 13 DPPM "Dynamic power-path management set point (account for scale factor)", 14 TMR (in) "Timer program input programmed by resistor. Disable fast-charge safety timer and termination by tying TMR to LDO.", 15 OUT (power) "Output terminal to the system", 16 OUT (power) "Output terminal to the system", 17 OUT (power) "Output terminal to the system", 18 ~{ACPG} (oc) "AC power-good status output (open drain)", 19 ~{USBPG} (oc) "USB power-good status output (open-drain)", 20 USB (power) "USB charge input voltage", 21 EP (power) "Exposed Pad"

## BQ24030RHLR
designator U?
Dual Input Li-Ion Charger with Dynamic Power-Path Management, Output regulated to 6 V, Vbat 4.2 V, 4.3 V, -40 to 85 degC, 20-pin QFN (RHL), Green (RoHS & no Sb/Br); PartNumber: BQ24030RHLR; Manufacturer: Texas Instruments; Lead Acid: N; Li-Ion: Y; SubFamily: Battery Charge Management; Vin(Min)(V): 4.3; DatasheetVersion: SLUS618H; PackageVersion: revJ, Dec-2011; PackageReference: RHL20-3050X2050TP; PackageDescription: 20-Leads Plastic Quad Flatpack No-Lead, 4.5 x 3.5 x 0.9 mm Body, 0.5 mm Pitch, Exposed Pad; Supplier 1: Digi-Key; Supplier Part Number 1: 296-17909-2-ND; Supplier 2: Digi-Key; Supplier Part Number 2: 296-17909-1-ND; Supplier 3: Digi-Key; Supplier Part Number 3: 296-17909-6-ND; Supplier 4: Newark; Supplier Part Number 4: 24K4387; Supplier 5: Mouser; Supplier Part Number 5: 595-BQ24030RHLR; Eco-Plan: Green (RoHS & no Sb/Br); Li-Polymer: Y; NiCd: N; NiMH: N; Over Voltage Protection: N; Mounting Technology: Surface Mount; ComponentLink1Description: Datasheet; ComponentLink1URL: http://www.ti.com/general/docs/lit/getliterature.tsp?genericPartNumber=BQ24030&fileType=pdf
footprint RHL20-3050X2050TP (QFN, 20-Leads, Body 4.5x3.5mm, Pitch 0.5mm, Thermal Pad 3.05x2.05mm, TI Recommended)
pins: 1 LDO (power) "3.3-V LDO regulator", 2 STAT1 (oc) "Charge status output 1 (open-drain)", 3 STAT2 (oc) "Charge status output 2 (open-drain)", 4 AC (power) "Charge input voltage from AC adapter", 5 BAT (power) "Battery input and output.", 6 BAT (power) "Battery input and output.", 7 ISET2 (in) "Charge current set point for USB port. (High = 500 mA, Low = 100 mA)", 8 PSEL (in) "Power source selection input (Low for USB, High for AC)", 9 CE (in) "Chip enable input (active high)", 10 ISET1 (in) "Charge current set point for AC input and precharge and termination set point for both AC and USB", 11 VSS (power) "Ground input (the thermal pad on the underside of the package) There is an internal electrical connection between the exposed thermal pad and VSS pin of the device. The exposed thermal pad must be connected to the same (See Datasheet)", 12 TS (in) "Temperature sense input", 13 DPPM "Dynamic power-path management set point (account for scale factor)", 14 TMR (in) "Timer program input programmed by resistor. Disable fast-charge safety timer and termination by tying TMR to LDO", 15 OUT (power) "Output terminal to the system", 16 OUT (power) "Output terminal to the system", 17 OUT (power) "Output terminal to the system", 18 ~{ACPG} (oc) "AC power-good status output (open-drain)", 19 ~{USBPG} (oc) "USB power-good status output (open-drain)", 20 USB (power) "USB charge input voltage", 21 EP (power) "Exposed Thermal Pad"

## BQ24030RHLRG4
designator U?
Dual Input Li-Ion Charger with Dynamic Power-Path Management, Output regulated to 6 V, Vbat 4.2 V, 4.3 V, -40 to 85 degC, 20-pin QFN (RHL), Green (RoHS & no Sb/Br); PartNumber: BQ24030RHLRG4; Manufacturer: Texas Instruments; Lead Acid: N; Li-Ion: Y; SubFamily: Battery Charge Management; Vin(Min)(V): 4.3; DatasheetVersion: SLUS618H; PackageVersion: revJ, Dec-2011; PackageReference: RHL20-3050X2050TP; PackageDescription: 20-Leads Plastic Quad Flatpack No-Lead, 4.5 x 3.5 x 0.9 mm Body, 0.5 mm Pitch, Exposed Pad; Supplier 1: Digi-Key; Supplier Part Number 1: BQ24030RHLRG4-ND; Supplier 2: Newark; Supplier Part Number 2: 24K4388; Supplier 3: Mouser; Supplier Part Number 3: 595-BQ24030RHLRG4; Eco-Plan: Green (RoHS & no Sb/Br); Li-Polymer: Y; NiCd: N; NiMH: N; Over Voltage Protection: N; Mounting Technology: Surface Mount; ComponentLink1Description: Datasheet; ComponentLink1URL: http://www.ti.com/general/docs/lit/getliterature.tsp?genericPartNumber=BQ24030&fileType=pdf
footprint RHL20-3050X2050TP (QFN, 20-Leads, Body 4.5x3.5mm, Pitch 0.5mm, Thermal Pad 3.05x2.05mm, TI Recommended)
pins: 1 LDO (power) "3.3-V LDO regulator", 2 STAT1 (oc) "Charge status output 1 (open-drain)", 3 STAT2 (oc) "Charge status output 2 (open-drain)", 4 AC (power) "Charge input voltage from AC adapter", 5 BAT (power) "Battery input and output.", 6 BAT (power) "Battery input and output.", 7 ISET2 (in) "Charge current set point for USB port. (High = 500 mA, Low = 100 mA)", 8 PSEL (in) "Power source selection input (Low for USB, High for AC)", 9 CE (in) "Chip enable input (active high)", 10 ISET1 (in) "Charge current set point for AC input and precharge and termination set point for both AC and USB", 11 VSS (power) "Ground input (the thermal pad on the underside of the package) There is an internal electrical connection between the exposed thermal pad and VSS pin of the device. The exposed thermal pad must be connected to the same (See Datasheet)", 12 TS (in) "Temperature sense input", 13 DPPM "Dynamic power-path management set point (account for scale factor)", 14 TMR (in) "Timer program input programmed by resistor. Disable fast-charge safety timer and termination by tying TMR to LDO", 15 OUT (power) "Output terminal to the system", 16 OUT (power) "Output terminal to the system", 17 OUT (power) "Output terminal to the system", 18 ~{ACPG} (oc) "AC power-good status output (open-drain)", 19 ~{USBPG} (oc) "USB power-good status output (open-drain)", 20 USB (power) "USB charge input voltage", 21 EP (power) "Exposed Thermal Pad"

## BQ24031IRHLRQ1
designator U?
Automotive Catalog Dual Input Li-Ion Charger with Dynamic Power-Path Management, Output Regulated to, 4.3 V, -40 to 85 degC, 20-pin QFN (RHL), Green (RoHS & no Sb/Br); PartNumber: BQ24031IRHLRQ1; Manufacturer: Texas Instruments; Lead Acid: N; Li-Ion: Y; SubFamily: Battery Charge Management; Vin(Min)(V): 4.3; DatasheetVersion: SLUS793B; PackageVersion: revJ, Dec-2011; PackageReference: RHL20-3050X2050TP; PackageDescription: 20-Leads Plastic Quad Flatpack No-Lead, 4.5 x 3.5 x 0.9 mm Body, 0.5 mm Pitch, Exposed Pad; Supplier 1: Digi-Key; Supplier Part Number 1: 296-24147-2-ND; Supplier 2: Digi-Key; Supplier Part Number 2: 296-24147-1-ND; Supplier 3: Digi-Key; Supplier Part Number 3: 296-24147-6-ND; Supplier 4: Mouser; Supplier Part Number 4: 595-BQ24031IRHLRQ1; Eco-Plan: Green (RoHS & no Sb/Br); Li-Polymer: Y; NiCd: N; NiMH: N; Over Voltage Protection: N; Mounting Technology: Surface Mount; ComponentLink1Description: Datasheet; ComponentLink1URL: http://www.ti.com/general/docs/lit/getliterature.tsp?genericPartNumber=BQ24031-Q1&fileType=pdf
footprint RHL20-3050X2050TP (QFN, 20-Leads, Body 4.5x3.5mm, Pitch 0.5mm, Thermal Pad 3.05x2.05mm, TI Recommended)
pins: 1 LDO (power) "3.3-V LDO regulator", 2 STAT1 (oc) "Charge status output 1 (open drain)", 3 STAT2 (oc) "Charge status output 2 (open drain)", 4 AC (power) "Charge input voltage from AC adapter", 5 BAT (power) "Battery input and output.", 6 BAT (power) "Battery input and output.", 7 ISET2 (in) "Charge current set point for USB port (high = 500 mA, low = 100 mA)", 8 PSEL (in) "Power source selection input (low for USB, high for AC)", 9 CE (in) "Chip enable input (active high)", 10 ISET1 (in) "Charge current set point for AC input and precharge and termination set point for both AC and USB", 11 VSS (power) "Ground input (the thermal pad on the underside of the package) There is an internal electrical connection between the exposed thermal pad and VSS pin of the device. The exposed thermal pad must be connected to the same (See Datasheet)", 12 TS (in) "Temperature sense input", 13 DPPM "Dynamic power-path management set point (account for scale factor)", 14 TMR (in) "Timer program input programmed by resistor. Disable fast-charge safety timer and termination by tying TMR to LDO.", 15 OUT (power) "Output terminal to the system", 16 OUT (power) "Output terminal to the system", 17 OUT (power) "Output terminal to the system", 18 ~{ACPG} (oc) "AC power-good status output (open drain)", 19 ~{USBPG} (oc) "USB power-good status output (open-drain)", 20 USB (power) "USB charge input voltage", 21 EP (power) "Thermal pad"